# EAGLE library part LM2841 (library printrbot)
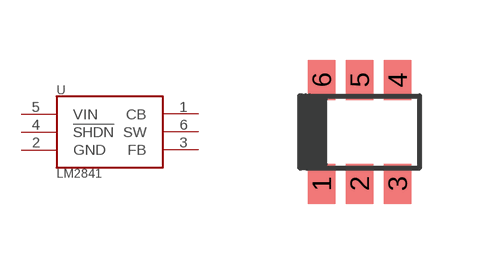
[diagram p3: symbol with the pads of TSOT6; footprint TSOT6]

Designator prefix U

## LM2841  [TSOT6]
1  CB  pas
2  GND  sup
3  FB  pas
4  !SHDN  in
5  VIN  pwr
6  SW  pas

## Footprint TSOT6 (pad centres in mm)
smd 0.69 x 1: 1 -1,-1.4; 2 -0.05,-1.4; 3 0.9,-1.4; 4 0.9,1.2; 5 -0.05,1.2; 6 -1,1.2